# EAGLE library part PROJEKT_SE5_XFW-HX711 (library Library_Łukasz.Skowron)
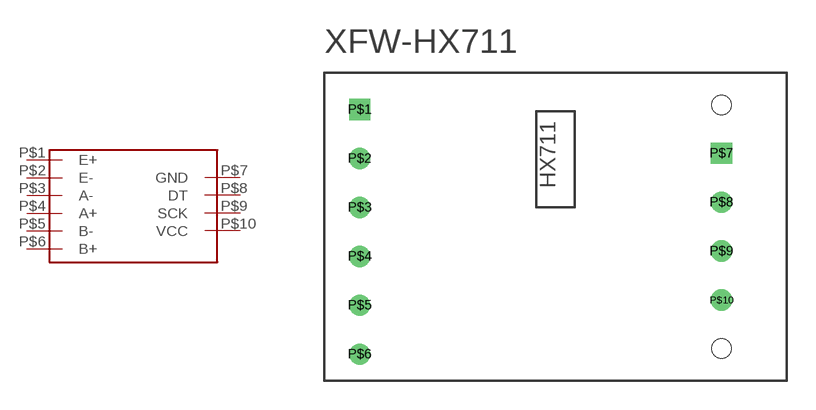
[diagram p2: symbol with the pads of PROJEKT_SE5_XFV-HX711; footprint PROJEKT_SE5_XFV-HX711]

Designator prefix -

## PROJEKT_SE5_XFW-HX711  [PROJEKT_SE5_XFV-HX711]
P$1  E+  out
P$2  E-  out
P$3  A-  in
P$4  A+  in
P$5  B-  in
P$6  B+  in
P$7  GND  pwr
P$8  DT  out
P$9  SCK  in
P$10  VCC  pwr

## Footprint PROJEKT_SE5_XFV-HX711 (pad centres in mm)
drill 0.6 square: P$1 -10.16,6.08; P$7 8.62,3.81
drill 0.6: P$2 -10.16,3.54; P$3 -10.16,1; P$4 -10.16,-1.54; P$5 -10.16,-4.08; P$6 -10.16,-6.62; P$8 8.62,1.27; P$9 8.62,-1.27; P$10 8.62,-3.81
hole 1 at 8.62,6.32
hole 1 at 8.62,-6.32